# EAGLE library part SN65220 (library 1_USER)
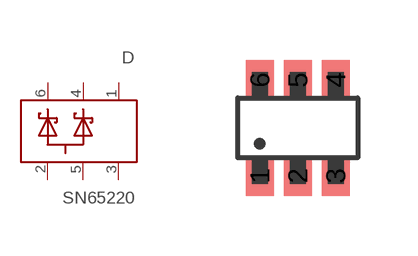
[diagram p9: symbol with the pads of SOT23-6; footprint SOT23-6]

Designator prefix D

## SN65220  [SOT23-6]
1  NC_1  pas
2  GND_2  pas
3  NC_3  pas
4  B  pas
5  GND_5  pas
6  A  pas

## Footprint SOT23-6 (pad centres in mm)
smd 0.7 x 1: 1 -0.95,-1.2; 2 0,-1.2; 3 0.95,-1.2; 4 0.95,1.2; 5 0,1.2; 6 -0.95,1.2